# Altium schematic symbol library J30J-15ZKW.SchLib: 1 symbol
Pins are listed as number, name and electrical type; pins without a type are passive.

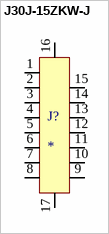
[diagram p0: symbol J30J-15ZKW-J]

## J30J-15ZKW-J
designator J?
footprint J30J-15ZKW-J
pins: 1, 2, 3, 4, 5, 6, 7, 8, 9, 10, 11, 12, 13, 14, 15, 16, 17